# Altium schematic symbol library SMD_Cap_Sch.SchLib: 3 symbols
Pins are listed as number, name and electrical type; pins without a type are passive.

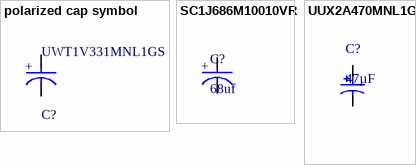
[diagram p0: symbols polarized cap symbol to UUX2A470MNL1GS]

## polarized cap symbol
designator C?, comment UWT1V331MNL1GS
Dielectric Material: Aluminium; Leakage Current: 3uA; Ripple Current: 300mA; Voltage Rating: 35V; Capacitance: 330uF; Tolerance: 20%; Dissipation Factor: 0.14%; Lead Diameter: 1.1mm; Life (Hours): 1000Hour; Lead Pitch: 4.5mm; Lead Free: Lead Free; Height - Seated (Max): 0.394inch; Height: 10mm; Radiation Hardening: No; REACH SVHC: No SVHC; Voltage: 35V; Packaging: Tape and Reel; Max Operating Temperature: 105°C; Ripple Current (AC): 300mA; Length: 10mm; Package Quantity: 500; Min Operating Temperature: -55°C; Case/Package: Radial; Termination: SMD/SMT; Number of Pins: 2; Mount: Surface Mount; Voltage Rating (DC): 35V; Diameter: 10mm
footprint FP-UWT1V331MNL1GS-MFG
pins: 1 C, 2 A
text: +

## SC1J686M10010VR
designator C?, comment 68uf
68uf 100V 85C; Value: 68uf; Voltage Rating: 100V
footprint 10x10 radial smd cap
pins: 1 C, 2 A
text: +

## UUX2A470MNL1GS
designator C?, comment 47µF
47uF, 100VDC, +/- 20%, Aluminum Electrolytic Capacitor, -55 to 105 degC, 2-Pin SMD, RoHS, Tape and Reel; Manufacturer: Nichicon; Type: Can; Rated Voltage: 100V; Package Description: 2-Pin Aluminum Electrolytic Capacitor, Body 10.3 x 10.3 mm; Datasheet Version: 08/2015; Case Size/Dimension: Ø10x10mm; Mounting Technology: SurfaceMount; Operating Temp-Max: 105°C; Datasheet URL: http://products.nichicon.co.jp/en/pdf/XJA043/e-uux.pdf; Manufacturer URL: http://www.nichicon.co.jp/english/; Package Reference: UUX2A470MNL1GS; Value: 47µF
footprint NIC-UUX2A470MNL1GS_L (Aluminum Electrolytic Capacitor, Body 10.5x10.5mm, IPC High Density)
footprint NIC-UUX2A470MNL1GS_M (Aluminum Electrolytic Capacitor, Body 10.5x10.5mm, IPC Low Density)
footprint NIC-UUX2A470MNL1GS_N (Aluminum Electrolytic Capacitor, Body 10.5x10.5mm, IPC Medium Density)
pins: 1, 2